# EAGLE library part PCA9515 (library FaBo-Repeater)
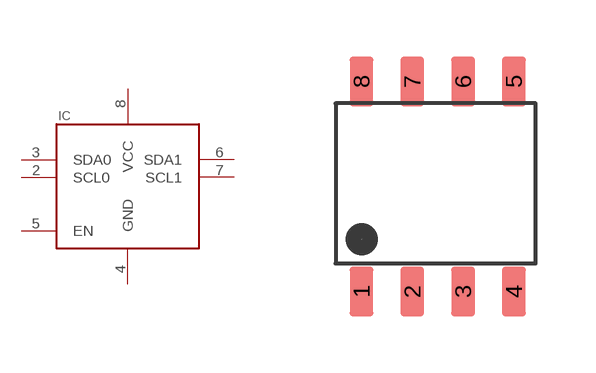
[diagram p0: symbol with the pads of SO8; footprint SO8]

Designator prefix IC

## PCA9515  [SO8]
2  SCL0
3  SDA0
4  GND
5  EN
6  SDA1
7  SCL1
8  VCC

## Footprint SO8 (pad centres in mm)
smd 0.6 x 1.25: 1 -1.85,-2.7; 2 -0.58,-2.7; 3 0.69,-2.7; 4 1.96,-2.7; 5 1.96,2.55; 6 0.69,2.55; 7 -0.58,2.55; 8 -1.85,2.55